# EAGLE library part 74LVC1G27 (library Logic)
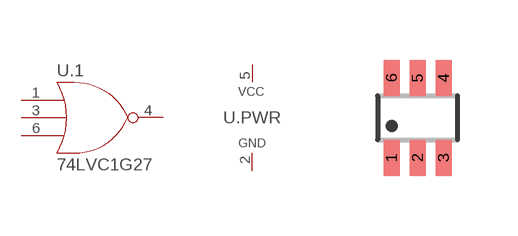
[diagram p9: symbol with the pads of SC70-6; footprint SC70-6]

Designator prefix U; gates .PWR=PWR .1=NOR-3

## 74LVC1G27  [SC70-6]
1  .1:A  in
2  .PWR:GND  pwr
3  .1:B  in
4  .1:Y  out
5  .PWR:VCC  pwr
6  .1:C  in

## Footprint SC70-6 (pad centres in mm)
smd 0.4 x 0.9: 1 -0.65,-1; 2 0,-1; 3 0.65,-1; 4 0.65,1; 5 0,1; 6 -0.65,1